# Altium footprint library picphlipvfd1.PcbLib: 20 footprints (part 1 of 2)
Each footprint in its own frame and in the unit in brackets; x right, y up, seen from the top. Pads: shape width x height; smd on the part's side, far side on the other; paste and mask are expansions set on the pad; w line width, h text height; cw(c..) or ccw(c..) is an arc to the next point about the centre after c.
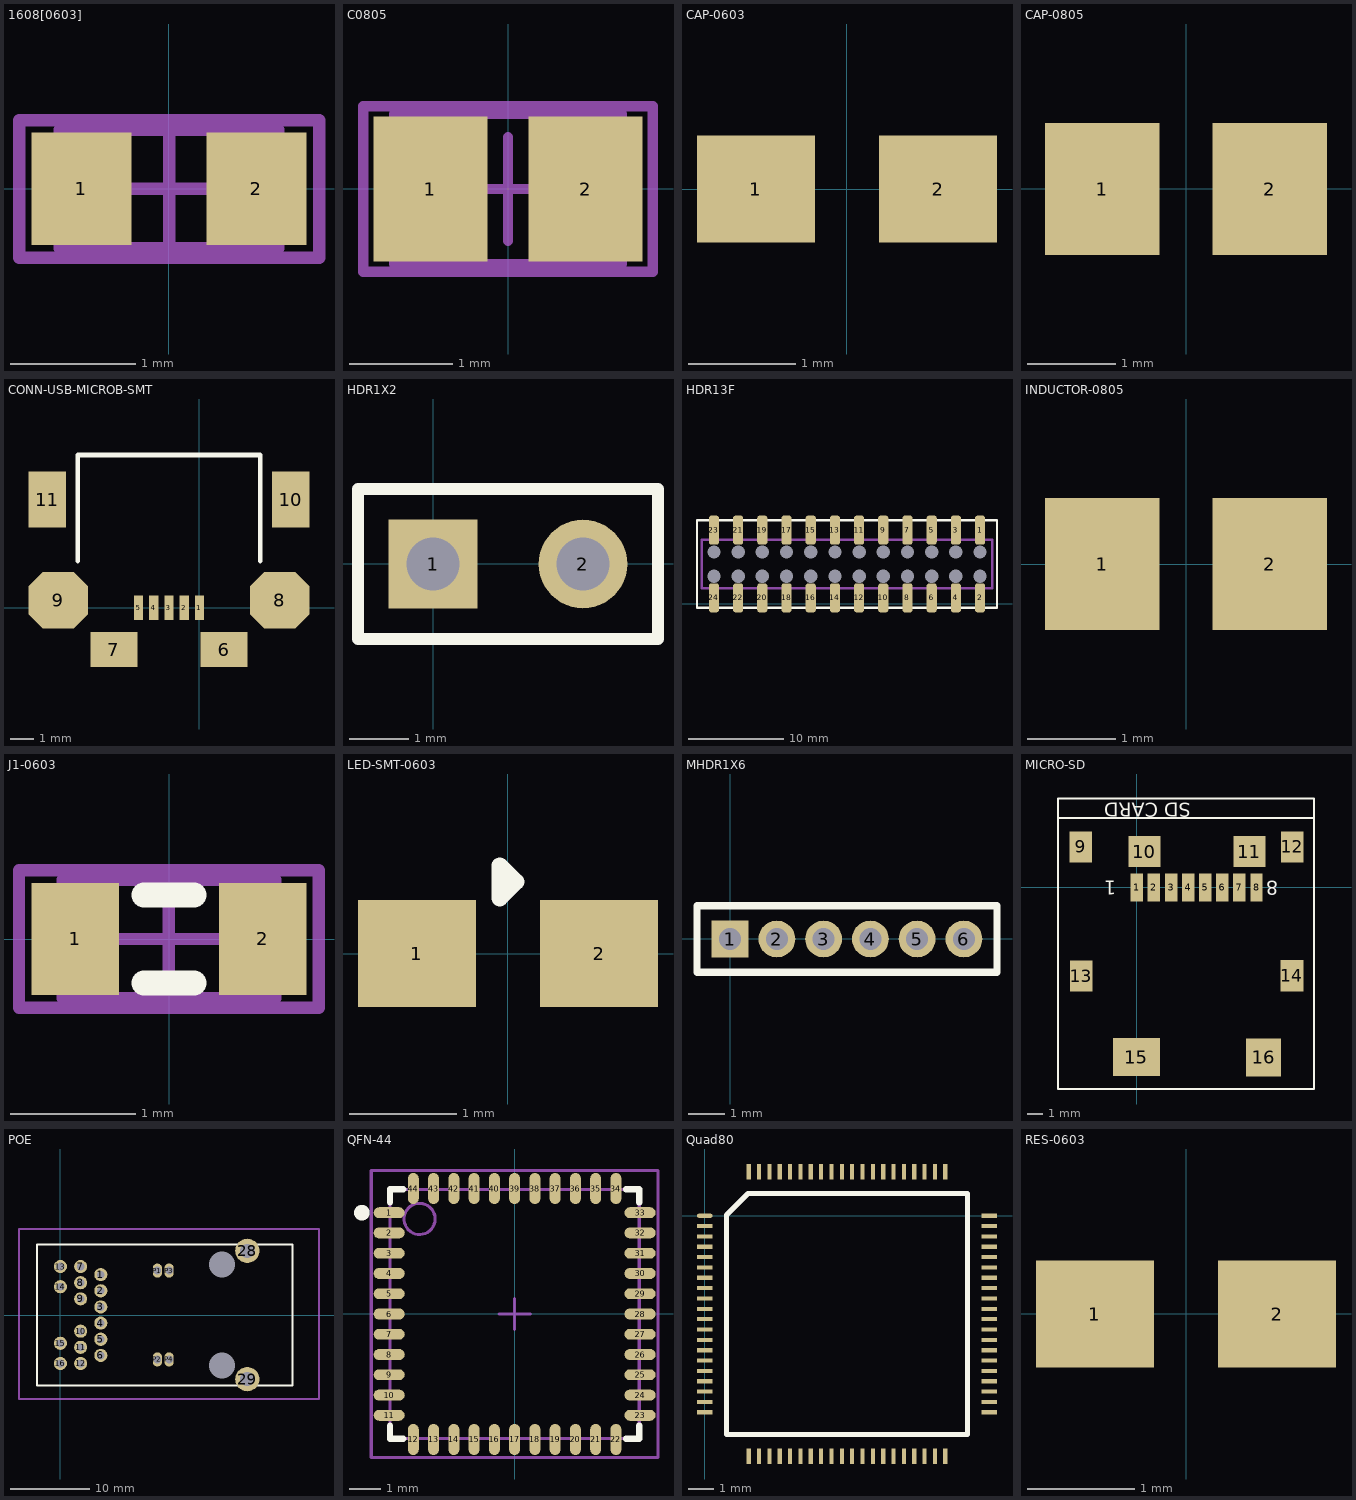
[diagram p0: the footprints below, top view; thin cyan lines are the x and y axes]

## 1608[0603] [mm]
pads (2):
  rect 0.8x0.9 smd: 1(-0.7,0) 2(0.7,0)
Mechanical 13:
  lines w0.1: -0.875,-0.475 -0.875,0.475 0.875,0.475 0.875,-0.475 -0.875,-0.475
Mechanical 15:
  lines w0.1: -0.475,0 0.475,0 ; 0,-0.475 0,0.475 ; -1.2,-0.55 -1.2,0.55 1.2,0.55 1.2,-0.55 -1.2,-0.55
3D body: height 1.3, standoff 0, extent -0.875,-0.475 0.875,0.475

## C0805 [mm]
pads (2):
  rect 1.1x1.4 smd: 1(-0.75,0) 2(0.75,0)
Mechanical 13:
  lines w0.1: -1.1,-0.725 -1.1,0.725 1.1,0.725 1.1,-0.725 -1.1,-0.725
Mechanical 15:
  lines w0.1: -0.5,0 0.5,0 ; 0,-0.5 0,0.5 ; -1.4,-0.8 -1.4,0.8 1.4,0.8 1.4,-0.8 -1.4,-0.8
3D body: height 1.4, standoff 0, extent -1.1,-0.725 1.1,0.725

## CAP-0603 [mm]
pads (2):
  rect 1.1x1 smd: 1(-0.85,0) 2(0.85,0)
3D body: height 0.88, standoff 0.02, extent -0.8,-0.43 0.8,0.43

## CAP-0805 [mm]
pads (2):
  rect 1.3x1.5 smd: 1(-0.95,0) 2(0.95,0)
3D body: height 0.78, standoff 0.02, extent -1,-0.655 1,0.655

## CONN-USB-MICROB-SMT [mm]
pads (11):
  rect 0.4x1.05 smd: 1(0,0) 2(-0.65,0) 3(-1.3,0) 4(-1.95,0) 5(-2.6,0)
  rect 2x1.5 smd: 6(1.05,-1.775) 7(-3.65,-1.775)
  oct 2.55x2.4 smd: 8(3.425,0.325) 9(-6.025,0.325)
  rect 1.6x2.4 smd: 10(3.9,4.625) 11(-6.5,4.625)
Top Overlay:
  lines w0.2: -5.2,2 -5.2,6.525 2.6,6.525 ; 2.6,2 2.6,6.525 ; 2.6,6.042 2.6,6.525
3D body: height 1.56, standoff -1.52, extent -7.05,-2.032 4.45,7.263

## HDR1X2 [mm]
pads (2):
  rect 1.5x1.5 hole 0.9: 1(0,0)
  round 1.5 hole 0.9: 2(2.54,0)
Top Overlay:
  lines w0.2: -1.27,-1.27 -1.27,1.27 3.81,1.27 3.81,-1.27 -1.27,-1.27

## HDR13F [mil]
pads (48):
  rrect50% 42x120 smd mask+3: 1(2155,305) 2(2155,25) 3(2055,305) 4(2055,25) 5(1955,305) 6(1955,25) 7(1855,305) 8(1855,25) 9(1755,305) 10(1755,25) 11(1655,305) 12(1655,25) 13(1555,305) 14(1555,25) 15(1455,305) 16(1455,25) 17(1355,305) 18(1355,25) 19(1255,305) 20(1255,25) 21(1155,305) 22(1155,25) 23(1055,305) 24(1055,25)
  round 0 hole 55 unplated: 25(2155,215) 26(2155,115) 27(2055,215) 28(2055,115) 29(1955,215) 30(1955,115) 31(1855,215) 32(1855,115) 33(1755,215) 34(1755,115) 35(1655,215) 36(1655,115) 37(1555,215) 38(1555,115) 39(1455,215) 40(1455,115) 41(1355,215) 42(1355,115) 43(1255,215) 44(1255,115) 45(1155,215) 46(1155,115) 47(1055,215) 48(1055,115)
Top Overlay:
  lines w10: 985,-16 985,346 2225,346 2225,-16 985,-16
Mechanical 1:
  lines w10: 1005,65 1005,265 2205,265 2205,65 1005,65
  text "J1" at 1587.43,398 h30

## INDUCTOR-0805 [mm]
pads (2):
  rect 1.3x1.5 smd: 1(-0.95,0) 2(0.95,0)
3D body: height 0.78, standoff 0.02, extent -1,-0.655 1,0.655

## J1-0603 [mm]
pads (2):
  rect 0.7x0.9 smd: 1(-0.75,0) 2(0.75,0)
Top Overlay:
  lines w0.2: -0.2,-0.35 0.2,-0.35 ; -0.2,0.35 0.2,0.35
Mechanical 13:
  lines w0.1: -0.85,-0.475 0.85,-0.475 0.85,0.475 -0.85,0.475 -0.85,-0.475
Mechanical 15:
  lines w0.1: -0.475,0 0.475,0 ; 0,-0.475 0,0.475 ; -1.2,-0.55 1.2,-0.55 1.2,0.55 -1.2,0.55 -1.2,-0.55
3D body: height 0.9, standoff 0, extent -0.85,-0.475 0.85,0.475

## LED-SMT-0603 [mm]
pads (2):
  rect 1.1x1 smd: 1(-0.85,0) 2(0.85,0)
Top Overlay:
  lines w0.152: -0.076,0.518 0.076,0.671 -0.076,0.823 -0.076,0.518
3D body: height 0.53, standoff 0.02, extent -0.8,-0.415 0.8,0.445
3D body: height 0.75, standoff 0.1, extent -0.8,-0.415 0.8,0.445

## MHDR1X6 [mm]
pads (6):
  rect 1x1 hole 0.6: 1(0,0)
  round 1 hole 0.6: 2(1.27,0) 3(2.54,0) 4(3.81,0) 5(5.08,0) 6(6.35,0)
Top Overlay:
  lines w0.2: -0.9,-0.9 7.25,-0.9 7.25,0.9 -0.9,0.9 -0.9,-0.9

## MICRO-SD [mm]
pads (16):
  rect 0.8x1.8 smd: 1(0,0) 2(1.1,0) 3(2.2,0) 4(3.3,0) 5(4.4,0) 6(5.5,0) 7(6.6,0) 8(7.7,0)
  rect 1.45x2 smd: 9(-3.6,2.6) 12(10,2.6) 13(-3.581,-5.715) 14(9.982,-5.69)
  rect 2.05x2 smd: 10(0.483,2.3) 11(7.239,2.3)
  rect 3x2.45 smd: 15(-0.025,-10.922)
  rect 2.25x2.45 smd: 16(8.153,-10.947)
Top Overlay:
  lines w0.127: -5.08,4.445 -5.08,5.715 11.405,5.715 11.405,4.445 ; -5.08,4.445 -5.08,-12.979 11.405,-12.979 11.405,4.445 ; -5.08,4.445 11.405,4.445
  text "SD CARD" at 3.454,5.436 h0.89
  text "8" at 9.093,0.432 h0.89
  text "1" at -1.321,0.432 h0.89

## POE [mil]
pads (24):
  round 65 hole 38: 1(200,200) 2(200,120) 3(200,40) 4(200,-40) 5(200,-120) 6(200,-200) 7(100,240) 8(100,160) 9(100,80) 10(100,-80) 11(100,-160) 12(100,-240) 13(0,240) 14(0,140) 15(0,-140) 16(0,-240)
  round 0 hole 130 unplated: 26(800,250) 27(800,-250)
  round 120 hole 70: 28(925,317.5) 29(925,-317.5)
  oval 45x70 hole 38: P1(480,220) P2(480,-220) P3(538,220) P4(538,-220)
Top Overlay:
  lines w10: -115,-350 1150,-350 1150,350 -115,350 -115,-350
Mechanical 1:
  lines w10: -205,-415 1280,-415 1280,425 -150,425 -205,425 -205,-415

## QFN-44 [mm]
pads (44):
  oval 1x0.35 smd: 1(-4.025,3.25) 2(-4.025,2.6) 3(-4.025,1.95) 4(-4.025,1.3) 5(-4.025,0.65) 6(-4.025,0) 7(-4.025,-0.65) 8(-4.025,-1.3) 9(-4.025,-1.95) 10(-4.025,-2.6) 11(-4.025,-3.25) 23(4.025,-3.25) 24(4.025,-2.6) 25(4.025,-1.95) 26(4.025,-1.3) 27(4.025,-0.65) 28(4.025,0) 29(4.025,0.65) 30(4.025,1.3) 31(4.025,1.95) 32(4.025,2.6) 33(4.025,3.25)
  oval 0.35x1 smd: 12(-3.25,-4.025) 13(-2.6,-4.025) 14(-1.95,-4.025) 15(-1.3,-4.025) 16(-0.65,-4.025) 17(0,-4.025) 18(0.65,-4.025) 19(1.3,-4.025) 20(1.95,-4.025) 21(2.6,-4.025) 22(3.25,-4.025) 34(3.25,4.025) 35(2.6,4.025) 36(1.95,4.025) 37(1.3,4.025) 38(0.65,4.025) 39(0,4.025) 40(-0.65,4.025) 41(-1.3,4.025) 42(-1.95,4.025) 43(-2.6,4.025) 44(-3.25,4.025)
Top Overlay:
  circle w0.25: c-4.9,3.25 r0.125
  lines w0.2: -4,-3.575 -4,-4 -3.575,-4 ; -4,3.575 -4,4 -3.575,4 ; 3.575,-4 4,-4 4,-3.575 ; 3.575,4 4,4 4,3.575
Mechanical 13:
  circle w0.1: c-3.05,3.05 r0.5
  lines w0.1: -4,-4 4,-4 4,4 -4,4 -4,-4
Mechanical 15:
  lines w0.1: -0.5,0 0.5,0 ; 0,-0.5 0,0.5 ; -4.6,-4.6 4.6,-4.6 4.6,4.6 -4.6,4.6 -4.6,-4.6
3D body: height 0.9, standoff 0.02, extent -4,-4 4.001,4.001
3D body: height 0, standoff 0, extent -4,-4 4,4

## Quad80 [mm]
pads (80):
  oval 0.6x0.16 smd: 1(0,0)
  rect 0.6x0.16 smd: 2(0,-0.4) 3(0,-0.8) 4(0,-1.2) 5(0,-1.6) 6(0,-2) 7(0,-2.4) 8(0,-2.8) 9(0,-3.2) 10(0,-3.6) 11(0,-4) 12(0,-4.4) 13(0,-4.8) 14(0,-5.2) 15(0,-5.6) 16(0,-6) 17(0,-6.4) 18(0,-6.8) 19(0,-7.2) 20(0,-7.6) 41(11,-7.6) 42(11,-7.2) 43(11,-6.8) 44(11,-6.4) 45(11,-6) 46(11,-5.6) 47(11,-5.2) 48(11,-4.8) 49(11,-4.4) 50(11,-4) 51(11,-3.6) 52(11,-3.2) 53(11,-2.8) 54(11,-2.4) 55(11,-2) 56(11,-1.6) 57(11,-1.2) 58(11,-0.8) 59(11,-0.4) 60(11,0)
  rect 0.16x0.6 smd: 21(1.7,-9.3) 22(2.1,-9.3) 23(2.5,-9.3) 24(2.9,-9.3) 25(3.3,-9.3) 26(3.7,-9.3) 27(4.1,-9.3) 28(4.5,-9.3) 29(4.9,-9.3) 30(5.3,-9.3) 31(5.7,-9.3) 32(6.1,-9.3) 33(6.5,-9.3) 34(6.9,-9.3) 35(7.3,-9.3) 36(7.7,-9.3) 37(8.1,-9.3) 38(8.5,-9.3) 39(8.9,-9.3) 40(9.3,-9.3) 61(9.3,1.7) 62(8.9,1.7) 63(8.5,1.7) 64(8.1,1.7) 65(7.7,1.7) 66(7.3,1.7) 67(6.9,1.7) 68(6.5,1.7) 69(6.1,1.7) 70(5.7,1.7) 71(5.3,1.7) 72(4.9,1.7) 73(4.5,1.7) 74(4.1,1.7) 75(3.7,1.7) 76(3.3,1.7) 77(2.9,1.7) 78(2.5,1.7) 79(2.1,1.7) 80(1.7,1.7)
Top Overlay:
  lines w0.2: 0.835,-8.465 0.835,0.03 1.67,0.865 10.165,0.865 10.165,-8.465 0.835,-8.465

## RES-0603 [mm]
pads (2):
  rect 1.1x1 smd: 1(-0.85,0) 2(0.85,0)
3D body: height 0.53, standoff 0.02, extent -0.8,-0.415 0.8,0.445